# Altium footprint library Mini-Circuits.PcbLib: 21 footprints (part 1 of 2)
Each footprint in its own frame and in the unit in brackets; x right, y up, seen from the top. Pads: shape width x height; smd on the part's side, far side on the other; paste and mask are expansions set on the pad; w line width, h text height; cw(c..) or ccw(c..) is an arc to the next point about the centre after c.
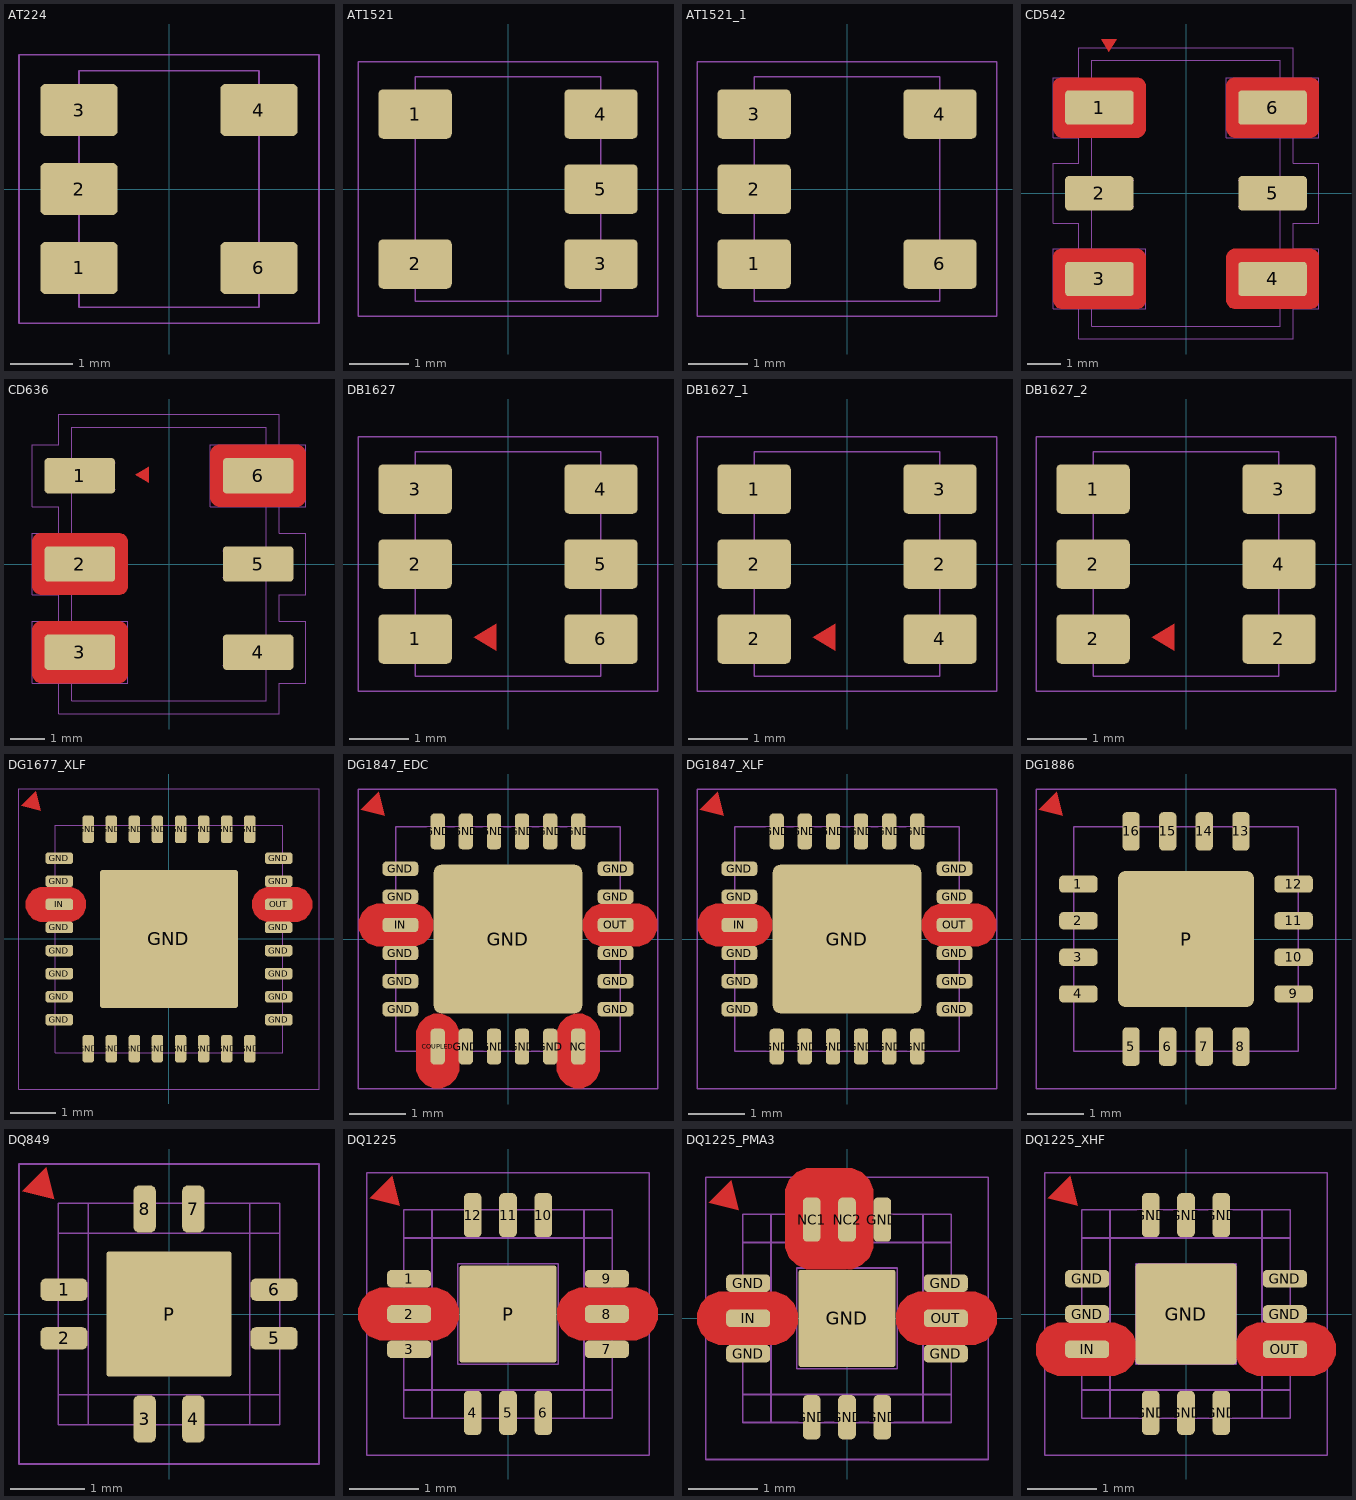
[diagram p0: the footprints below, top view; thin cyan lines are the x and y axes]

## AT224 [mil]
pads (5):
  rrect20% 49x33 smd mask+2: 1(-57,-50) 2(-57,0) 3(-57,50) 4(57,50) 6(57,-50)
Top Courtyard:
  lines w1: -95,-85 95,-85 95,85 -95,85 -95,-85
Top Component Outline:
  lines w1: -75,-64 -35,-64 -35,-36 -75,-36 -75,-64 ; -75,-14 -75,14 -35,14 -35,-14 -75,-14 ; -75,36 -35,36 -35,64 -75,64 -75,36 ; -57,-75 -57,75 57,75 57,-75 -57,-75 ; 35,-64 75,-64 75,-36 35,-36 35,-64 ; 35,36 35,64 75,64 75,36 35,36
3D body: height 21, standoff 0.5, extent -57,-75 57,75
3D body: height 80, standoff 65, extent -63,-69.87 66.49,59.87
3D body: height 65, standoff 50, extent -61.48,-63.86 68.01,65.88
3D body: height 105, standoff 25, extent -40,-30.32 40,30.16
3D body: height 104.92, standoff 25.08, extent -40,-70 40,9.68
3D body: height 104.92, standoff 25.08, extent -40,-9.68 40,70
3D body: height 5, standoff 0, extent -75,36 -35,64
3D body: height 5, standoff 0, extent -75,-14 -35,14
3D body: height 5, standoff 0, extent -75,-64 -35,-36
3D body: height 5, standoff 0, extent 35,-64 75,-36
3D body: height 5, standoff 0, extent 35,36 75,64

## AT1521 [mil]
pads (5):
  rrect20% 49x33 smd mask+2: 1(-62,50) 2(-62,-50) 3(62,-50) 4(62,50) 5(62,0)
Top Courtyard:
  lines w1: -100,-85 -100,85 100,85 100,-85 -100,-85
Top Component Outline:
  lines w1: -80,-64 -40,-64 -40,-36 -80,-36 -80,-64 ; -80,36 -40,36 -40,64 -80,64 -80,36 ; -62,-75 62,-75 62,75 -62,75 -62,-75 ; 40,-64 80,-64 80,-36 40,-36 40,-64 ; 40,-14 40,14 80,14 80,-14 40,-14 ; 40,36 80,36 80,64 40,64 40,36
3D body: height 160, standoff 145, extent -60,-64 60,64
3D body: height 18, standoff 0.5, extent -62,-75 62,75
3D body: height 5, standoff 0, extent -80,-64 -40,-36
3D body: height 5, standoff 0, extent -80,36 -40,64
3D body: height 5, standoff 0, extent 40,36 80,64
3D body: height 5, standoff 0, extent 40,-14 80,14
3D body: height 5, standoff 0, extent 40,-64 80,-36
3D body: height 146, standoff 14, extent -25,-60 25,60
3D body: height 65, standoff 50, extent -37,1.16 42.68,81
3D body: height 80, standoff 65, extent -42,-2.84 37.68,77
3D body: height 110, standoff 95, extent -40,-5.84 39.68,74
3D body: height 95, standoff 80, extent -41,0.16 38.68,80
3D body: height 110, standoff 95, extent -40.68,-82 39,-2.16
3D body: height 95, standoff 80, extent -43,-83.84 36.68,-4
3D body: height 65, standoff 50, extent -40,-79.84 39.68,0
3D body: height 80, standoff 65, extent -45.01,-85.93 34.68,-6.09

## AT1521_1 [mil]
pads (5):
  rrect20% 49x33 smd mask+2: 1(-62,-50) 2(-62,0) 3(-62,50) 4(62,50) 6(62,-50)
Top Courtyard:
  lines w1: -100,-85 100,-85 100,85 -100,85 -100,-85
Top Component Outline:
  lines w1: -80,-64 -40,-64 -40,-36 -80,-36 -80,-64 ; -80,-14 -80,14 -40,14 -40,-14 -80,-14 ; -80,36 -40,36 -40,64 -80,64 -80,36 ; -62,-75 -62,75 62,75 62,-75 -62,-75 ; 40,-64 80,-64 80,-36 40,-36 40,-64 ; 40,36 80,36 80,64 40,64 40,36
3D body: height 80, standoff 65, extent -34.68,6.09 45.01,85.93
3D body: height 65, standoff 50, extent -39.68,0 40,79.84
3D body: height 95, standoff 80, extent -36.68,4 43,83.84
3D body: height 110, standoff 95, extent -39,2.16 40.68,82
3D body: height 95, standoff 80, extent -38.68,-80 41,-0.16
3D body: height 110, standoff 95, extent -39.68,-74 40,5.84
3D body: height 80, standoff 65, extent -37.68,-77 42,2.84
3D body: height 65, standoff 50, extent -42.68,-81 37,-1.16
3D body: height 146, standoff 14, extent -25,-60 25,60
3D body: height 5, standoff 0, extent -80,36 -40,64
3D body: height 5, standoff 0, extent -80,-14 -40,14
3D body: height 5, standoff 0, extent -80,-64 -40,-36
3D body: height 5, standoff 0, extent 40,-64 80,-36
3D body: height 5, standoff 0, extent 40,36 80,64
3D body: height 18, standoff 0.5, extent -62,-75 62,75
3D body: height 160, standoff 145, extent -60,-64 60,64

## CD542 [mil]
height 161.81
pads (6):
  rrect20% 80x40 smd mask+2: 1(-101,100) 2(-101,0) 3(-101,-100) 4(101,-100) 5(101,0) 6(101,100)
Top Layer:
  pour cut-out: 155,125 155,126.99 153.48,130.66 150.66,133.48 146.99,135 145,135 57,135 55.01,135 51.34,133.48 48.52,130.66 47,126.99 47,125 47,76 47,73.81 48.67,69.77 51.77,66.67 55.81,65 58,65 145,65 146.99,65 150.66,66.52 153.48,69.34 155,73.01 155,75
  pour cut-out: 155,-75 155,-73.01 153.48,-69.34 150.66,-66.52 146.99,-65 145,-65 57,-65 55.01,-65 51.34,-66.52 48.52,-69.34 47,-73.01 47,-75 47,-124 47,-126.19 48.67,-130.23 51.77,-133.33 55.81,-135 58,-135 145,-135 146.99,-135 150.66,-133.48 153.48,-130.66 155,-126.99 155,-125
  pour cut-out: -47,-75 -47,-73.01 -48.52,-69.34 -51.34,-66.52 -55.01,-65 -57,-65 -145,-65 -146.99,-65 -150.66,-66.52 -153.48,-69.34 -155,-73.01 -155,-75 -155,-124 -155,-126.19 -153.33,-130.23 -150.23,-133.33 -146.19,-135 -144,-135 -57,-135 -55.01,-135 -51.34,-133.48 -48.52,-130.66 -47,-126.99 -47,-125
  pour cut-out: -47,125 -47,126.99 -48.52,130.66 -51.34,133.48 -55.01,135 -57,135 -145,135 -146.99,135 -150.66,133.48 -153.48,130.66 -155,126.99 -155,125 -155,76 -155,73.81 -153.33,69.77 -150.23,66.67 -146.19,65 -144,65 -57,65 -55.01,65 -51.34,66.52 -48.52,69.34 -47,73.01 -47,75
  region: -90,165 -81,180 -99,180
Top Courtyard:
  lines w1: -125,-135 -125,-170 125,-170 125,-135 155,-135 155,-65 125,-65 125,-35 155,-35 155,35 125,35 125,65 ; -125,-65 -125,-35 -155,-35 -155,35 -125,35 -125,65 -155,65 -155,135 -125,135 -125,170 125,170 125,135 ; -155,-135 -155,-65 -47,-65 -47,-135 -155,-135 ; 47,65 155,65 155,135 47,135 47,65
Top Component Outline:
  lines w1: -61,-115 -136,-115 -136,-85 -61,-85 ; -61,-15 -136,-15 -136,15 -61,15 ; -61,85 -136,85 -136,115 -61,115 ; 61,-115 136,-115 136,-85 61,-85 ; 61,-15 136,-15 136,15 61,15 ; 61,85 136,85 136,115 61,115 ; -110,-155 -110,155 110,155 110,-155 -110,-155
3D body: height 112.1, standoff 1, extent -89.88,105.04 -60,134.98
3D body: height 5, standoff 0, extent -136,85 -61,115
3D body: height 5, standoff 0, extent -136,-15 -61,15
3D body: height 5, standoff 0, extent -136,-115 -61,-85
3D body: height 5, standoff 0, extent 61,-115 136,-85
3D body: height 5, standoff 0, extent 61,-15 136,15
3D body: height 5, standoff 0, extent 61,85 136,115
3D body: height 112, standoff 3, extent -110,-155 110,155

## CD636 [mil]
height 161.81
pads (6):
  rrect20% 80x40 smd mask+2: 1(-101,100) 2(-101,0) 3(-101,-100) 4(101,-100) 5(101,0) 6(101,100)
Top Layer:
  region: -38,101 -23,92 -23,110
  pour cut-out: -47,25 -47,26.99 -48.52,30.66 -51.34,33.48 -55.01,35 -57,35 -145,35 -146.99,35 -150.66,33.48 -153.48,30.66 -155,26.99 -155,25 -155,-24 -155,-26.19 -153.33,-30.23 -150.23,-33.33 -146.19,-35 -144,-35 -57,-35 -55.01,-35 -51.34,-33.48 -48.52,-30.66 -47,-26.99 -47,-25
  pour cut-out: -47,-75 -47,-73.01 -48.52,-69.34 -51.34,-66.52 -55.01,-65 -57,-65 -145,-65 -146.99,-65 -150.66,-66.52 -153.48,-69.34 -155,-73.01 -155,-75 -155,-124 -155,-126.19 -153.33,-130.23 -150.23,-133.33 -146.19,-135 -144,-135 -57,-135 -55.01,-135 -51.34,-133.48 -48.52,-130.66 -47,-126.99 -47,-125
  pour cut-out: 155,125 155,126.99 153.48,130.66 150.66,133.48 146.99,135 145,135 57,135 55.01,135 51.34,133.48 48.52,130.66 47,126.99 47,125 47,76 47,73.81 48.67,69.77 51.77,66.67 55.81,65 58,65 145,65 146.99,65 150.66,66.52 153.48,69.34 155,73.01 155,75
Top Designator:
  text ".Designator" at 12.5,-127.64 h35
Top Courtyard:
  lines w1: -125,-135 -125,-170 125,-170 125,-135 155,-135 155,-65 125,-65 125,-35 155,-35 155,35 125,35 125,65 ; -125,-65 -125,-35 -155,-35 -155,35 -125,35 -125,65 -155,65 -155,135 -125,135 -125,170 125,170 125,135 ; -155,-135 -47,-135 -47,-65 -155,-65 -155,-135 ; 47,65 47,135 155,135 155,65 47,65
Top Component Outline:
  lines w1: -61,-115 -136,-115 -136,-85 -61,-85 ; -61,-15 -136,-15 -136,15 -61,15 ; -61,85 -136,85 -136,115 -61,115 ; 61,-115 136,-115 136,-85 61,-85 ; 61,-15 136,-15 136,15 61,15 ; 61,85 136,85 136,115 61,115 ; -110,-155 110,-155 110,155 -110,155 -110,-155
3D body: height 162, standoff 3, extent -110,-155 110,155
3D body: height 5, standoff 0, extent 61,85 136,115
3D body: height 5, standoff 0, extent 61,-15 136,15
3D body: height 5, standoff 0, extent 61,-115 136,-85
3D body: height 5, standoff 0, extent -136,-115 -61,-85
3D body: height 5, standoff 0, extent -136,-15 -61,15
3D body: height 5, standoff 0, extent -136,85 -61,115

## DB1627 [mil]
pads (6):
  rrect20% 49x33 smd mask+2: 1(-62,-50) 2(-62,0) 3(-62,50) 4(62,50) 5(62,0) 6(62,-50)
Top Layer:
  region: -23,-49 -8,-58 -8,-40
Top Designator:
  text ".Designator" at 12.5,-127.64 h35
Top Courtyard:
  lines w1: -100,-85 -100,85 100,85 100,-85 -100,-85
Top Component Outline:
  lines w1: -80,-64 -80,-36 -40,-36 -40,-64 -80,-64 ; -80,-14 -40,-14 -40,14 -80,14 -80,-14 ; -80,36 -80,64 -40,64 -40,36 -80,36 ; -62,-75 62,-75 62,75 -62,75 -62,-75 ; 40,-64 40,-36 80,-36 80,-64 40,-64 ; 40,-14 40,14 80,14 80,-14 40,-14 ; 40,36 40,64 80,64 80,36 40,36
3D body: height 160, standoff 145, extent -60,-64 60,64
3D body: height 18, standoff 0.5, extent -62,-75 62,75
3D body: height 5, standoff 0, extent 40,36 80,64
3D body: height 5, standoff 0, extent 40,-14 80,14
3D body: height 5, standoff 0, extent 40,-64 80,-36
3D body: height 5, standoff 0, extent -80,-64 -40,-36
3D body: height 5, standoff 0, extent -80,-14 -40,14
3D body: height 5, standoff 0, extent -80,36 -40,64
3D body: height 146, standoff 14, extent -25,-60 25,60
3D body: height 65, standoff 50, extent -42.68,-81 37,-1.16
3D body: height 80, standoff 65, extent -37.68,-77 42,2.84
3D body: height 110, standoff 95, extent -39.68,-74 40,5.84
3D body: height 95, standoff 80, extent -38.68,-80 41,-0.16
3D body: height 110, standoff 95, extent -39,2.16 40.68,82
3D body: height 95, standoff 80, extent -36.68,4 43,83.84
3D body: height 65, standoff 50, extent -39.68,0 40,79.84
3D body: height 80, standoff 65, extent -34.68,6.09 45.01,85.93

## DB1627_1 [mil]
pads (6):
  rrect20% 49x33 smd mask+2: 1(-62,50) 2(-62,-50) 2(-62,0) 2(62,0) 3(62,50) 4(62,-50)
Top Layer:
  region: -23,-49 -8,-58 -8,-40
Top Designator:
  text ".Designator" at 12.5,-127.64 h35
Top Courtyard:
  lines w1: -100,-85 -100,85 100,85 100,-85 -100,-85
Top Component Outline:
  lines w1: -80,-64 -80,-36 -40,-36 -40,-64 -80,-64 ; -80,-14 -40,-14 -40,14 -80,14 -80,-14 ; -80,36 -80,64 -40,64 -40,36 -80,36 ; -62,-75 62,-75 62,75 -62,75 -62,-75 ; 40,-64 40,-36 80,-36 80,-64 40,-64 ; 40,-14 40,14 80,14 80,-14 40,-14 ; 40,36 40,64 80,64 80,36 40,36
3D body: height 160, standoff 145, extent -60,-64 60,64
3D body: height 18, standoff 0.5, extent -62,-75 62,75
3D body: height 5, standoff 0, extent 40,36 80,64
3D body: height 5, standoff 0, extent 40,-14 80,14
3D body: height 5, standoff 0, extent 40,-64 80,-36
3D body: height 5, standoff 0, extent -80,-64 -40,-36
3D body: height 5, standoff 0, extent -80,-14 -40,14
3D body: height 5, standoff 0, extent -80,36 -40,64
3D body: height 146, standoff 14, extent -25,-60 25,60
3D body: height 65, standoff 50, extent -42.68,-81 37,-1.16
3D body: height 80, standoff 65, extent -37.68,-77 42,2.84
3D body: height 110, standoff 95, extent -39.68,-74 40,5.84
3D body: height 95, standoff 80, extent -38.68,-80 41,-0.16
3D body: height 110, standoff 95, extent -39,2.16 40.68,82
3D body: height 95, standoff 80, extent -36.68,4 43,83.84
3D body: height 65, standoff 50, extent -39.68,0 40,79.84
3D body: height 80, standoff 65, extent -34.68,6.09 45.01,85.93

## DB1627_2 [mil]
pads (6):
  rrect20% 49x33 smd mask+2: 1(-62,50) 2(-62,-50) 2(-62,0) 2(62,-50) 3(62,50) 4(62,0)
Top Layer:
  region: -23,-49 -8,-58 -8,-40
Top Designator:
  text ".Designator" at 12.5,-127.64 h35
Top Courtyard:
  lines w1: -100,-85 100,-85 100,85 -100,85 -100,-85
Top Component Outline:
  lines w1: -80,-64 -40,-64 -40,-36 -80,-36 -80,-64 ; -80,-14 -80,14 -40,14 -40,-14 -80,-14 ; -80,36 -40,36 -40,64 -80,64 -80,36 ; -62,-75 -62,75 62,75 62,-75 -62,-75 ; 40,-64 80,-64 80,-36 40,-36 40,-64 ; 40,-14 80,-14 80,14 40,14 40,-14 ; 40,36 80,36 80,64 40,64 40,36
3D body: height 80, standoff 65, extent -34.68,6.09 45.01,85.93
3D body: height 65, standoff 50, extent -39.68,0 40,79.84
3D body: height 95, standoff 80, extent -36.68,4 43,83.84
3D body: height 110, standoff 95, extent -39,2.16 40.68,82
3D body: height 95, standoff 80, extent -38.68,-80 41,-0.16
3D body: height 110, standoff 95, extent -39.68,-74 40,5.84
3D body: height 80, standoff 65, extent -37.68,-77 42,2.84
3D body: height 65, standoff 50, extent -42.68,-81 37,-1.16
3D body: height 146, standoff 14, extent -25,-60 25,60
3D body: height 5, standoff 0, extent -80,36 -40,64
3D body: height 5, standoff 0, extent -80,-14 -40,14
3D body: height 5, standoff 0, extent -80,-64 -40,-36
3D body: height 5, standoff 0, extent 40,-64 80,-36
3D body: height 5, standoff 0, extent 40,-14 80,14
3D body: height 5, standoff 0, extent 40,36 80,64
3D body: height 18, standoff 0.5, extent -62,-75 62,75
3D body: height 160, standoff 145, extent -60,-64 60,64

## DG1677_XLF [mil]
pads (33):
  rrect50% 24x10 smd mask+2: GND(-95,-70) GND(-95,-50) GND(-95,-30) GND(-95,-10) GND(-95,10) GND(-95,50) GND(-95,70) GND(95,-70) GND(95,-50) GND(95,-30) GND(95,-10) GND(95,10) GND(95,50) GND(95,70) IN(-95,30) OUT(95,30)
  rrect50% 10x24 smd mask+2: GND(-70,-95) GND(-70,95) GND(-50,-95) GND(-50,95) GND(-30,-95) GND(-30,95) GND(-10,-95) GND(-10,95) GND(10,-95) GND(10,95) GND(30,-95) GND(30,95) GND(50,-95) GND(50,95) GND(70,-95) GND(70,95)
  rrect5% 120x120 smd paste-200 mask+2: GND(0,0)
Top Layer:
  region: -111.26,111.26 -115.5,128.23 -128.23,115.51
  pour cut-out: 109,15 111.98,15 117.5,17.28 121.72,21.5 124,27.02 124,30 124,32.98 121.72,38.5 117.5,42.72 111.98,45 109,45 87.12,45 84.14,45 78.62,42.72 74.4,38.5 72.12,32.98 72.12,30 72.12,27.02 74.4,21.5 78.62,17.28 84.14,15 87.12,15
  pour cut-out: -109,45 -111.98,45 -117.5,42.72 -121.72,38.5 -124,32.98 -124,30 -124,27.02 -121.72,21.5 -117.5,17.28 -111.98,15 -109,15 -87.12,15 -84.14,15 -78.62,17.28 -74.4,21.5 -72.12,27.02 -72.12,30 -72.12,32.98 -74.4,38.5 -78.62,42.72 -84.14,45 -87.12,45
Top Paste:
  region: -15,15 -15,-15 15,-15 15,15
  rectangle: 25,-15 55,15
  rectangle: 25,25 55,55
  rectangle: -15,25 15,55
  rectangle: -55,25 -25,55
  rectangle: -55,-15 -25,15
  rectangle: -55,-55 -25,-25
  rectangle: -15,-55 15,-25
  rectangle: 25,-55 55,-25
Top Courtyard:
  lines w1: -130,-130 -130,130 130,130 130,-130 -130,-130
Top Component Outline:
  lines w1: -98.43,-98.43 98.43,-98.43 98.43,98.43 -98.43,98.43 -98.43,-98.43
3D body: height 35, standoff 0, extent -98.43,-98.43 98.43,98.43
3D body: height 10, standoff 0, extent 89,65 99,75
3D body: height 10, standoff 0, extent 89,45 99,55
3D body: height 10, standoff 0, extent 89,25 99,35
3D body: height 10, standoff 0, extent 89,5 99,15
3D body: height 10, standoff 0, extent 89,-15 99,-5
3D body: height 10, standoff 0, extent 89,-35 99,-25
3D body: height 10, standoff 0, extent 89,-55 99,-45
3D body: height 10, standoff 0, extent 89,-75 99,-65
3D body: height 10, standoff 0, extent -75,89 -65,99
3D body: height 10, standoff 0, extent -55,89 -45,99
3D body: height 10, standoff 0, extent -35,89 -25,99
3D body: height 10, standoff 0, extent -15,89 -5,99
3D body: height 10, standoff 0, extent 5,89 15,99
3D body: height 10, standoff 0, extent 25,89 35,99
3D body: height 10, standoff 0, extent 45,89 55,99
3D body: height 10, standoff 0, extent 65,89 75,99
3D body: height 10, standoff 0, extent -99,-75 -89,-65
3D body: height 10, standoff 0, extent -99,-55 -89,-45
3D body: height 10, standoff 0, extent -99,-35 -89,-25
3D body: height 10, standoff 0, extent -99,-15 -89,-5
3D body: height 10, standoff 0, extent -99,5 -89,15
3D body: height 10, standoff 0, extent -99,25 -89,35
3D body: height 10, standoff 0, extent -99,45 -89,55
3D body: height 10, standoff 0, extent -99,65 -89,75
3D body: height 10, standoff 0, extent 65,-99 75,-89
3D body: height 10, standoff 0, extent 45,-99 55,-89
3D body: height 10, standoff 0, extent 25,-99 35,-89
3D body: height 10, standoff 0, extent 5,-99 15,-89
3D body: height 10, standoff 0, extent -15,-99 -5,-89
3D body: height 10, standoff 0, extent -35,-99 -25,-89
3D body: height 10, standoff 0, extent -55,-99 -45,-89
3D body: height 10, standoff 0, extent -75,-99 -65,-89

## DG1847_EDC [mil]
pads (25):
  rrect50% 10x25 smd mask+2: COUPLED(-49.21,-75.31) GND(-49.21,75.31) GND(-29.53,-75.31) GND(-29.53,75.31) GND(-9.84,-75.31) GND(-9.84,75.31) GND(9.84,-75.31) GND(9.84,75.31) GND(29.53,75.31) GND(29.53,-75.31) GND(49.21,75.31) NC(49.21,-75.31)
  rrect50% 25x10 smd mask+2: GND(-75.31,-49.21) GND(-75.31,-29.53) GND(-75.31,-9.84) GND(-75.31,29.53) GND(-75.31,49.21) GND(75.31,-49.21) GND(75.31,-29.53) GND(75.31,-9.84) GND(75.31,29.53) GND(75.31,49.21) IN(-75.31,9.84) OUT(75.31,9.84)
  rrect10% 104x104 smd paste-100 mask+2: GND(0,0)
Top Layer:
  pour cut-out: 34.21,-89.31 34.21,-92.3 36.5,-97.81 40.72,-102.03 46.23,-104.32 49.21,-104.31 52.2,-104.32 57.71,-102.03 61.93,-97.81 64.21,-92.3 64.21,-89.32 64.21,-89.31 64.21,-67.43 64.21,-64.45 61.93,-58.94 57.71,-54.72 52.2,-52.44 49.21,-52.44 46.23,-52.44 40.72,-54.72 36.5,-58.94 34.21,-64.45 34.21,-67.43
  region: -86.26,86.26 -90.5,103.23 -103.23,90.51
  pour cut-out: -89.31,24.84 -92.3,24.84 -97.81,22.56 -102.03,18.34 -104.32,12.83 -104.31,9.84 -104.32,6.86 -102.03,1.35 -97.81,-2.87 -92.3,-5.16 -89.32,-5.16 -89.31,-5.16 -67.43,-5.16 -64.45,-5.16 -58.94,-2.87 -54.72,1.35 -52.44,6.86 -52.44,9.84 -52.44,12.83 -54.72,18.34 -58.94,22.56 -64.45,24.84 -67.43,24.84
  pour cut-out: 89.31,-5.16 92.3,-5.16 97.81,-2.87 102.03,1.35 104.32,6.86 104.31,9.84 104.32,12.83 102.03,18.34 97.81,22.56 92.3,24.84 89.32,24.84 89.31,24.84 67.43,24.84 64.45,24.84 58.94,22.56 54.72,18.34 52.44,12.83 52.44,9.84 52.44,6.86 54.72,1.35 58.94,-2.87 64.45,-5.16 67.43,-5.16
  pour cut-out: -64.21,-89.31 -64.21,-92.3 -61.93,-97.81 -57.71,-102.03 -52.2,-104.32 -49.21,-104.31 -46.23,-104.32 -40.72,-102.03 -36.5,-97.81 -34.21,-92.3 -34.21,-89.32 -34.21,-89.31 -34.21,-67.43 -34.21,-64.45 -36.5,-58.94 -40.72,-54.72 -46.23,-52.44 -49.21,-52.44 -52.2,-52.44 -57.71,-54.72 -61.93,-58.94 -64.21,-64.45 -64.21,-67.43
Top Paste:
  region: 41,-6 6,-6 6,-41 41,-41
  region: -6,-41 -6,-6 -41,-6 -41,-41
  rectangle: -41,6 -6,41
  region: 6,41 6,6 41,6 41,41
Top Courtyard:
  lines w1: -105,-105 -105,105 105,105 105,-105 -105,-105
Top Component Outline:
  lines w1: -78.74,-78.74 78.74,-78.74 78.74,78.74 -78.74,78.74 -78.74,-78.74
3D body: height 10, standoff 0, extent -54.21,-79 -44.21,-69
3D body: height 10, standoff 0, extent -34.53,-79 -24.53,-69
3D body: height 10, standoff 0, extent -14.84,-79 -4.84,-69
3D body: height 10, standoff 0, extent 4.84,-79 14.84,-69
3D body: height 10, standoff 0, extent 24.53,-79 34.53,-69
3D body: height 10, standoff 0, extent 44.21,-79 54.21,-69
3D body: height 10, standoff 0, extent -79,44.21 -69,54.21
3D body: height 10, standoff 0, extent -79,24.53 -69,34.53
3D body: height 10, standoff 0, extent -79,4.84 -69,14.84
3D body: height 10, standoff 0, extent -79,-14.84 -69,-4.84
3D body: height 10, standoff 0, extent -79,-34.53 -69,-24.53
3D body: height 10, standoff 0, extent -79,-54.21 -69,-44.21
3D body: height 10, standoff 0, extent 44.21,69 54.21,79
3D body: height 10, standoff 0, extent 24.53,69 34.53,79
3D body: height 10, standoff 0, extent 4.84,69 14.84,79
3D body: height 10, standoff 0, extent -14.84,69 -4.84,79
3D body: height 10, standoff 0, extent -34.53,69 -24.53,79
3D body: height 10, standoff 0, extent -54.21,69 -44.21,79
3D body: height 10, standoff 0, extent 69,44.21 79,54.21
3D body: height 10, standoff 0, extent 69,24.53 79,34.53
3D body: height 10, standoff 0, extent 69,4.84 79,14.84
3D body: height 10, standoff 0, extent 69,-14.84 79,-4.84
3D body: height 10, standoff 0, extent 69,-34.53 79,-24.53
3D body: height 10, standoff 0, extent 69,-54.21 79,-44.21
3D body: height 35, standoff 0, extent -78.74,-78.74 78.74,78.74

## DG1847_XLF [mil]
pads (25):
  rrect50% 25x10 smd mask+2: GND(-75.31,-49.21) GND(-75.31,-29.53) GND(-75.31,-9.84) GND(-75.31,29.53) GND(-75.31,49.21) GND(75.31,-49.21) GND(75.31,-29.53) GND(75.31,-9.84) GND(75.31,29.53) GND(75.31,49.21) IN(-75.31,9.84) OUT(75.31,9.84)
  rrect50% 10x25 smd mask+2: GND(-49.21,-75.31) GND(-49.21,75.31) GND(-29.53,-75.31) GND(-29.53,75.31) GND(-9.84,-75.31) GND(-9.84,75.31) GND(9.84,-75.31) GND(9.84,75.31) GND(29.53,75.31) GND(29.53,-75.31) GND(49.21,-75.31) GND(49.21,75.31)
  rrect10% 104x104 smd paste-100 mask+2: GND(0,0)
Top Layer:
  pour cut-out: 89.31,-5.16 92.3,-5.16 97.81,-2.87 102.03,1.35 104.32,6.86 104.31,9.84 104.32,12.83 102.03,18.34 97.81,22.56 92.3,24.84 89.32,24.84 89.31,24.84 67.43,24.84 64.45,24.84 58.94,22.56 54.72,18.34 52.44,12.83 52.44,9.84 52.44,6.86 54.72,1.35 58.94,-2.87 64.45,-5.16 67.43,-5.16
  pour cut-out: -89.31,24.84 -92.3,24.84 -97.81,22.56 -102.03,18.34 -104.32,12.83 -104.31,9.84 -104.32,6.86 -102.03,1.35 -97.81,-2.87 -92.3,-5.16 -89.32,-5.16 -89.31,-5.16 -67.43,-5.16 -64.45,-5.16 -58.94,-2.87 -54.72,1.35 -52.44,6.86 -52.44,9.84 -52.44,12.83 -54.72,18.34 -58.94,22.56 -64.45,24.84 -67.43,24.84
  region: -86.26,86.26 -90.5,103.23 -103.23,90.51
Top Paste:
  region: 6,41 6,6 41,6 41,41
  rectangle: -41,6 -6,41
  region: -6,-41 -6,-6 -41,-6 -41,-41
  region: 41,-6 6,-6 6,-41 41,-41
Top Courtyard:
  lines w1: -105,-105 105,-105 105,105 -105,105 -105,-105
Top Component Outline:
  lines w1: -78.74,-78.74 -78.74,78.74 78.74,78.74 78.74,-78.74 -78.74,-78.74
3D body: height 35, standoff 0, extent -78.74,-78.74 78.74,78.74
3D body: height 10, standoff 0, extent 69,-54.21 79,-44.21
3D body: height 10, standoff 0, extent 69,-34.53 79,-24.53
3D body: height 10, standoff 0, extent 69,-14.84 79,-4.84
3D body: height 10, standoff 0, extent 69,4.84 79,14.84
3D body: height 10, standoff 0, extent 69,24.53 79,34.53
3D body: height 10, standoff 0, extent 69,44.21 79,54.21
3D body: height 10, standoff 0, extent -54.21,69 -44.21,79
3D body: height 10, standoff 0, extent -34.53,69 -24.53,79
3D body: height 10, standoff 0, extent -14.84,69 -4.84,79
3D body: height 10, standoff 0, extent 4.84,69 14.84,79
3D body: height 10, standoff 0, extent 24.53,69 34.53,79
3D body: height 10, standoff 0, extent 44.21,69 54.21,79
3D body: height 10, standoff 0, extent -79,-54.21 -69,-44.21
3D body: height 10, standoff 0, extent -79,-34.53 -69,-24.53
3D body: height 10, standoff 0, extent -79,-14.84 -69,-4.84
3D body: height 10, standoff 0, extent -79,4.84 -69,14.84
3D body: height 10, standoff 0, extent -79,24.53 -69,34.53
3D body: height 10, standoff 0, extent -79,44.21 -69,54.21
3D body: height 10, standoff 0, extent 44.21,-79 54.21,-69
3D body: height 10, standoff 0, extent 24.53,-79 34.53,-69
3D body: height 10, standoff 0, extent 4.84,-79 14.84,-69
3D body: height 10, standoff 0, extent -14.84,-79 -4.84,-69
3D body: height 10, standoff 0, extent -34.53,-79 -24.53,-69
3D body: height 10, standoff 0, extent -54.21,-79 -44.21,-69

## DG1886 [mil]
pads (17):
  rrect50% 27x12 smd mask+2: 1(-75.31,38.39) 2(-75.31,12.8) 3(-75.31,-12.79) 4(-75.31,-38.39) 9(75.31,-38.39) 10(75.31,-12.8) 11(75.31,12.8) 12(75.31,38.39)
  rrect50% 12x27 smd mask+2: 5(-38.39,-75.31) 6(-12.8,-75.31) 7(12.79,-75.31) 8(38.39,-75.31) 13(38.39,75.31) 14(12.8,75.31) 15(-12.8,75.31) 16(-38.39,75.31)
  rrect10% 95x95 smd paste-100 mask+2: P(0,0)
Top Layer:
  region: -86.26,86.26 -90.5,103.23 -103.23,90.51
Top Paste:
  region: 41,-6 6,-6 6,-41 41,-41
  region: -6,-41 -6,-6 -41,-6 -41,-41
  rectangle: -41,6 -6,41
  region: 6,41 6,6 41,6 41,41
Top Courtyard:
  lines w1: -105,-105 -105,105 105,105 105,-105 -105,-105
Top Component Outline:
  lines w1: -78.74,-78.74 78.74,-78.74 78.74,78.74 -78.74,78.74 -78.74,-78.74
3D body: height 35, standoff 0, extent -78.74,-78.74 78.74,78.74
3D body: height 10, standoff 0, extent -79,6.79 -69,18.79
3D body: height 10, standoff 0, extent -79,-18.8 -69,-6.8
3D body: height 10, standoff 0, extent -79,-44.39 -69,-32.39
3D body: height 10, standoff 0, extent -79,32.38 -69,44.38
3D body: height 10, standoff 0, extent -18.79,-79 -6.79,-69
3D body: height 10, standoff 0, extent 6.8,-79 18.8,-69
3D body: height 10, standoff 0, extent 32.39,-79 44.39,-69
3D body: height 10, standoff 0, extent -44.38,-79 -32.38,-69
3D body: height 10, standoff 0, extent 69,-18.79 79,-6.79
3D body: height 10, standoff 0, extent 69,6.8 79,18.8
3D body: height 10, standoff 0, extent 69,32.39 79,44.39
3D body: height 10, standoff 0, extent 69,-44.38 79,-32.38
3D body: height 10, standoff 0, extent 6.79,69 18.79,79
3D body: height 10, standoff 0, extent -18.8,69 -6.8,79
3D body: height 10, standoff 0, extent -44.39,69 -32.39,79
3D body: height 10, standoff 0, extent 32.38,69 44.38,79

## DQ849 [mil]
pads (9):
  rrect50% 25x12 smd mask+2: 1(-56,12.99) 2(-56,-12.99) 5(56,-12.99) 6(56,12.99)
  rrect50% 12x25 smd mask+2: 3(-12.99,-56) 4(12.99,-56) 7(12.99,56) 8(-12.99,56)
  rrect5% 66.93x66.93 smd paste-100 mask+2: P(0,0)
Top Layer:
  region: -61.26,61.26 -65.5,78.23 -78.23,65.51
Top Paste:
  region: 5,28 5,5 28,5 28,28
  region: 28,-5 5,-5 5,-28 28,-28
  region: -5,-28 -5,-5 -28,-5 -28,-28
  rectangle: -28,5 -5,28
Top Courtyard:
  lines w1: -80,-80 80,-80 80,80 -80,80 -80,-80
Top Component Outline:
  lines w1: -59.06,-43.05 59.06,-43.05 ; -59.06,43.06 59.06,43.06 ; -43.06,-59.05 -43.06,59.06 ; 43.06,-59.05 43.06,59.06 ; -59.06,-59.05 -59.06,59.06 59.06,59.06 59.06,-59.05 -59.06,-59.05
3D body: height 10, standoff 0, extent -18.99,49.19 -6.99,59.19
3D body: height 10, standoff 0, extent 6.99,49.19 18.99,59.19
3D body: height 10, standoff 0, extent 49.19,6.99 59.19,18.99
3D body: height 10, standoff 0, extent 49.19,-18.99 59.19,-6.99
3D body: height 10, standoff 0, extent 6.99,-59.19 18.99,-49.19
3D body: height 10, standoff 0, extent -18.99,-59.19 -6.99,-49.19
3D body: height 10, standoff 0, extent -59.19,-18.99 -49.19,-6.99
3D body: height 10, standoff 0, extent -59.19,6.99 -49.19,18.99
3D body: height 35, standoff 0, extent -59.06,-59.05 59.06,59.06

## DQ1225 [mil]
pads (13):
  rrect50% 25x10 smd mask+2: 1(-56,20) 2(-56,0) 3(-56,-20) 7(56,-20) 8(56,0) 9(56,20)
  rrect50% 10x25 smd mask+2: 4(-20,-56) 5(0,-56) 6(20,-56) 10(20,56) 11(0,56) 12(-20,56)
  rrect5% 55x55 smd paste-100 mask+2: P(0,0)
Top Layer:
  pour cut-out: -43,-15 -40.02,-15 -34.5,-12.72 -30.28,-8.5 -28,-2.98 -28,0 -28,2.98 -30.28,8.5 -34.5,12.72 -40.02,15 -43,15 -70,15 -72.98,15 -78.5,12.72 -82.72,8.5 -85,2.98 -85,0 -85,-2.98 -82.72,-8.5 -78.5,-12.72 -72.98,-15 -70,-15
  region: -61.26,61.26 -65.5,78.23 -78.23,65.51
  pour cut-out: 43,15 40.02,15 34.5,12.72 30.28,8.5 28,2.98 28,0 28,-2.98 30.28,-8.5 34.5,-12.72 40.02,-15 43,-15 70,-15 72.98,-15 78.5,-12.72 82.72,-8.5 85,-2.98 85,0 85,2.98 82.72,8.5 78.5,12.72 72.98,15 70,15
Top Paste:
  rectangle: -24,5 -5,24
  region: -5,-24 -5,-5 -24,-5 -24,-24
  region: 24,-5 5,-5 5,-24 24,-24
  region: 5,24 5,5 24,5 24,24
Top Courtyard:
  lines w1: -80,-80 -80,80 80,80 80,-80 -80,-80
Top Component Outline:
  lines w1: -59.06,-43.05 59.06,-43.05 ; -59.06,43.06 59.06,43.06 ; -43.06,-59.05 -43.06,59.06 ; 43.06,-59.05 43.06,59.06 ; -59.06,-59.05 59.06,-59.05 59.06,59.06 -59.06,59.06 -59.06,-59.05 ; -28.5,-28.5 -28.5,28.5 28.5,28.5 28.5,-28.5 -28.5,-28.5
3D body: height 35, standoff 0, extent -59.06,-59.05 59.06,59.06
3D body: height 10, standoff 0, extent -60.06,14.69 -50.06,24.69
3D body: height 10, standoff 0, extent -60.06,-5 -50.06,5
3D body: height 10, standoff 0, extent -60.06,-24.68 -50.06,-14.69
3D body: height 10, standoff 0, extent 14.69,-60.06 24.68,-50.06
3D body: height 10, standoff 0, extent -5,-60.06 5,-50.06
3D body: height 10, standoff 0, extent -24.69,-60.06 -14.69,-50.06
3D body: height 10, standoff 0, extent 50.06,14.69 60.06,24.69
3D body: height 10, standoff 0, extent 50.06,-5 60.06,5
3D body: height 10, standoff 0, extent 50.06,-24.68 60.06,-14.69
3D body: height 10, standoff 0, extent -24.69,50.06 -14.69,60.06
3D body: height 10, standoff 0, extent -5,50.06 5,60.06
3D body: height 10, standoff 0, extent 14.69,50.06 24.68,60.06

## DQ1225_PMA3 [mil]
pads (13):
  rrect50% 25x10 smd mask+2: GND(-56,-20) GND(-56,20) GND(56,-20) GND(56,20) IN(-56,0) OUT(56,0)
  rrect50% 10x25 smd mask+2: GND(-20,-56) GND(0,-56) GND(20,-56) GND(20,56) NC1(-20,56) NC2(0,56)
  rrect5% 55x55 smd paste-100 mask+2: GND(0,0)
Top Layer:
  pour cut-out: -43,-15 -40.02,-15 -34.5,-12.72 -30.28,-8.5 -28,-2.98 -28,0 -28,2.98 -30.28,8.5 -34.5,12.72 -40.02,15 -43,15 -70,15 -72.98,15 -78.5,12.72 -82.72,8.5 -85,2.98 -85,0 -85,-2.98 -82.72,-8.5 -78.5,-12.72 -72.98,-15 -70,-15
  pour cut-out: 43,15 40.02,15 34.5,12.72 30.28,8.5 28,2.98 28,0 28,-2.98 30.28,-8.5 34.5,-12.72 40.02,-15 43,-15 70,-15 72.98,-15 78.5,-12.72 82.72,-8.5 85,-2.98 85,0 85,2.98 82.72,8.5 78.5,12.72 72.98,15 70,15
  pour cut-out: 0,85 -20,85 -22.98,85 -28.5,82.72 -32.72,78.5 -35,72.98 -35,70 -35,43 -35,40.02 -32.72,34.5 -28.5,30.28 -22.98,28 -20,28 0,28 2.98,28 8.5,30.28 12.72,34.5 15,40.02 15,43 15,70 15,72.98 12.72,78.5 8.5,82.72 2.98,85
  region: -61.26,61.26 -65.5,78.23 -78.23,65.51
Top Paste:
  region: 5,24 5,5 24,5 24,24
  region: 24,-5 5,-5 5,-24 24,-24
  region: -5,-24 -5,-5 -24,-5 -24,-24
  rectangle: -24,5 -5,24
Top Courtyard:
  lines w1: -80,-80 80,-80 80,80 -80,80 -80,-80
Top Component Outline:
  lines w1: -59.06,-43.05 59.06,-43.05 ; -59.06,43.06 59.06,43.06 ; -43.06,-59.05 -43.06,59.06 ; 43.06,-59.05 43.06,59.06 ; -59.06,-59.05 -59.06,59.06 59.06,59.06 59.06,-59.05 -59.06,-59.05 ; -28.5,-28.5 28.5,-28.5 28.5,28.5 -28.5,28.5 -28.5,-28.5
3D body: height 10, standoff 0, extent 14.69,50.06 24.68,60.06
3D body: height 10, standoff 0, extent -5,50.06 5,60.06
3D body: height 10, standoff 0, extent -24.69,50.06 -14.69,60.06
3D body: height 10, standoff 0, extent 50.06,-24.68 60.06,-14.69
3D body: height 10, standoff 0, extent 50.06,-5 60.06,5
3D body: height 10, standoff 0, extent 50.06,14.69 60.06,24.69
3D body: height 10, standoff 0, extent -24.69,-60.06 -14.69,-50.06
3D body: height 10, standoff 0, extent -5,-60.06 5,-50.06
3D body: height 10, standoff 0, extent 14.69,-60.06 24.68,-50.06
3D body: height 10, standoff 0, extent -60.06,-24.68 -50.06,-14.69
3D body: height 10, standoff 0, extent -60.06,-5 -50.06,5
3D body: height 10, standoff 0, extent -60.06,14.69 -50.06,24.69
3D body: height 35, standoff 0, extent -59.06,-59.05 59.06,59.06

## DQ1225_XHF [mil]
pads (13):
  rrect50% 25x10 smd mask+2: GND(-56,0) GND(-56,20) GND(56,0) GND(56,20) IN(-56,-20) OUT(56,-20)
  rrect50% 10x25 smd mask+2: GND(-20,-56) GND(-20,56) GND(0,-56) GND(0,56) GND(20,-56) GND(20,56)
  rrect5% 57x57 smd paste-100 mask+2: GND(0,0)
Top Layer:
  region: -61.26,61.26 -65.5,78.23 -78.23,65.51
  pour cut-out: -43,-35 -40.02,-35 -34.5,-32.72 -30.28,-28.5 -28,-22.98 -28,-20 -28,-17.02 -30.28,-11.5 -34.5,-7.28 -40.02,-5 -43,-5 -70,-5 -72.98,-5 -78.5,-7.28 -82.72,-11.5 -85,-17.02 -85,-20 -85,-22.98 -82.72,-28.5 -78.5,-32.72 -72.98,-35 -70,-35
  pour cut-out: 43,-5 40.02,-5 34.5,-7.28 30.28,-11.5 28,-17.02 28,-20 28,-22.98 30.28,-28.5 34.5,-32.72 40.02,-35 43,-35 70,-35 72.98,-35 78.5,-32.72 82.72,-28.5 85,-22.98 85,-20 85,-17.02 82.72,-11.5 78.5,-7.28 72.98,-5 70,-5
Top Paste:
  region: 5,24 5,5 24,5 24,24
  region: 24,-5 5,-5 5,-24 24,-24
  region: -5,-24 -5,-5 -24,-5 -24,-24
  rectangle: -24,5 -5,24
Top Courtyard:
  lines w1: -80,-80 80,-80 80,80 -80,80 -80,-80
Top Component Outline:
  lines w1: -59.06,-43.05 59.06,-43.05 ; -59.06,43.06 59.06,43.06 ; -43.06,-59.05 -43.06,59.06 ; 43.06,-59.05 43.06,59.06 ; -59.06,-59.05 -59.06,59.06 59.06,59.06 59.06,-59.05 -59.06,-59.05 ; -28.5,-28.5 28.5,-28.5 28.5,28.5 -28.5,28.5 -28.5,-28.5
3D body: height 10, standoff 0, extent 14.69,50.06 24.68,60.06
3D body: height 10, standoff 0, extent -5,50.06 5,60.06
3D body: height 10, standoff 0, extent -24.69,50.06 -14.69,60.06
3D body: height 10, standoff 0, extent 50.06,-24.68 60.06,-14.69
3D body: height 10, standoff 0, extent 50.06,-5 60.06,5
3D body: height 10, standoff 0, extent 50.06,14.69 60.06,24.69
3D body: height 10, standoff 0, extent -24.69,-60.06 -14.69,-50.06
3D body: height 10, standoff 0, extent -5,-60.06 5,-50.06
3D body: height 10, standoff 0, extent 14.69,-60.06 24.68,-50.06
3D body: height 10, standoff 0, extent -60.06,-24.68 -50.06,-14.69
3D body: height 10, standoff 0, extent -60.06,-5 -50.06,5
3D body: height 10, standoff 0, extent -60.06,14.69 -50.06,24.69
3D body: height 35, standoff 0, extent -59.06,-59.05 59.06,59.06